# Altium schematic symbol library rfpc-sma14-fn-a.SchLib: 1 symbol
Pins are listed as number, name and electrical type; pins without a type are passive.

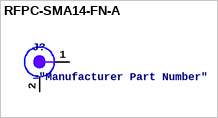
[diagram p0: symbol RFPC-SMA14-FN-A]

## RFPC-SMA14-FN-A
designator J?
SMA Connector Jack, Female Socket Panel Mount, Through Hole, Right Angle Solder, IP68 unmated
pins: 1 RF, 2 GND